# Altium integrated library MIC29302WU.IntLib: 1 symbol
Pins are listed as number, name and electrical type; pins without a type are passive.

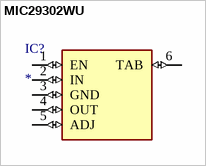
[diagram p0: symbol MIC29302WU]

## MIC29302WU
designator IC?
Linear Voltage Regulator IC Positive Adjustable 1 Output 3A TO-263-5; MF: Microchip Technology; MP: MIC29302WU; SnapEDA_Link: https://www.snapeda.com/parts/MIC29302WU/Microchip/view-part/?ref=snap; Package: TO-263-6 Microchip Technology / Micrel; Value: *; Check_prices: https://www.snapeda.com/parts/MIC29302WU/Microchip/view-part/?ref=eda
footprint MIC29302WU
pins: 1 EN (io), 2 IN (io), 3 GND (io), 4 OUT (io), 5 ADJ (io), 6 TAB (io)